# Altium schematic symbol library TPS2052B.SchLib: 1 symbol
Pins are listed as number, name and electrical type; pins without a type are passive.

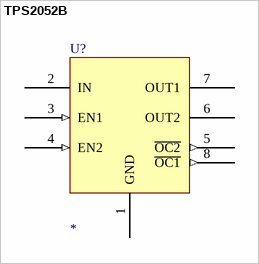
[diagram p0: symbol TPS2052B]

## TPS2052B
designator U?
pins: 1 GND (power), 2 IN (power), 3 EN1 (in), 4 EN2 (in), 5 ~{OC2} (out), 6 OUT2 (power), 7 OUT1 (power), 8 ~{OC1} (out)